# Altium schematic symbol library Capacitor.Schlib: 1 symbol
Pins are listed as number, name and electrical type; pins without a type are passive.

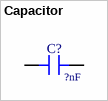
[diagram p0: symbol Capacitor]

## Capacitor
designator C?  Capacitance: ?nF
Rated Voltage: ?V; Temperature: ?C
footprint CAPACITOR_300mil
footprint 0603 cap
footprint 0805 Cap
footprint 1206 CAP
pins: 1, 2